# Altium schematic symbol library SCH_Modules.SchLib: 4 symbols
Pins are listed as number, name and electrical type; pins without a type are passive.

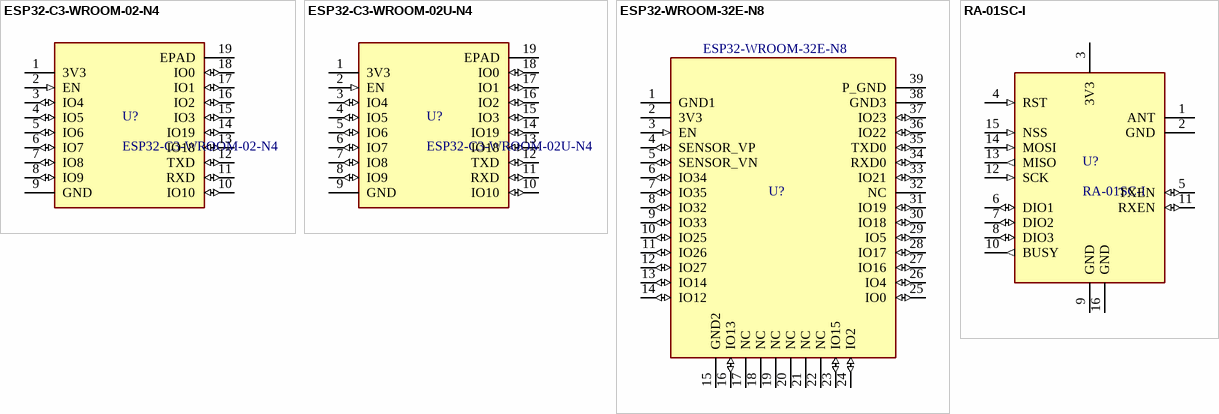
[diagram p0: symbols ESP32-C3-WROOM-02-N4 to RA-01SC-I]

## ESP32-C3-WROOM-02-N4
designator U?
WIFI + BLE MCU MODULE; Manufacturer: Espressif Systems; Supplier 1: LCSC; Manufacturer Part Number: ESP32-C3-WROOM-02-N4; RoHS: Yes; Stock 1: 1292; Pricing 1: 1=2,68230, 10=2,42140, 30=2,38010, 100=2,31800 (USD); Supplier Part Number 1: C2934560; ComponentLink1Description: Datasheet; ComponentLink1URL: https://www.espressif.com/sites/default/files/documentation/esp32-c3-wroom-02_datasheet_en.pdf; Category: RF Transceiver Modules; Case/Package: SMD-18
footprint ESP32C3WROOM02
pins: 1 3V3 (power), 2 EN (in), 3 IO4 (io), 4 IO5 (io), 5 IO6 (io), 6 IO7 (io), 7 IO8 (io), 8 IO9 (io), 9 GND (power), 10 IO10 (io), 11 RXD (io), 12 TXD (io), 13 IO18 (io), 14 IO19 (io), 15 IO3 (io), 16 IO2 (io), 17 IO1 (io), 18 IO0 (io), 19 EPAD (power)

## ESP32-C3-WROOM-02U-N4
designator U?
WIFI + BLE MCU MODULE; Manufacturer: Espressif Systems; Supplier 1: LCSC; Manufacturer Part Number: ESP32-C3-WROOM-02U-N4; RoHS: Yes; Category: RF Transceiver Modules; Stock 1: 729; Pricing 1: 1=2,67600, 10=2,41660, 30=2,37530, 100=2,31480 (USD); Supplier Part Number 1: C2926676; Case/Package: SMD-18
footprint ESP32C3WROOM02U
pins: 1 3V3 (power), 2 EN (in), 3 IO4 (io), 4 IO5 (io), 5 IO6 (io), 6 IO7 (io), 7 IO8 (io), 8 IO9 (io), 9 GND (power), 10 IO10 (io), 11 RXD (io), 12 TXD (io), 13 IO18 (io), 14 IO19 (io), 15 IO3 (io), 16 IO2 (io), 17 IO1 (io), 18 IO0 (io), 19 EPAD (power)

## ESP32-WROOM-32E-N8
designator U?, comment Manufacturer Part Number: ESP32-WROOM-32E-N8  (hidden comment: ESP32-WROOM-32E)
WIFI + BLUETOOTH MCU MODULE; Manufacturer: Espressif Systems; RoHS: No; Category: RF Transceiver Modules; Stock 1: 10823; Pricing 1: 1=3,30000 (USD); Supplier 1: LCSC; Supplier 2: Digi-Key; Supplier Part Number 1: C701342; Supplier Part Number 2: 1965-ESP32-WROOM-32E-N8CT-ND; ComponentLink1Description: Datasheet; ComponentLink1URL: https://www.espressif.com/sites/default/files/documentation/esp32-wroom-32e_esp32-wroom-32ue_datasheet_en.pdf; Case/Package: SMD-38
footprint ESP32­WROOM­32E
pins: 1 GND1 (power), 2 3V3 (power), 3 EN (in), 4 SENSOR_VP (io), 5 SENSOR_VN (io), 6 IO34 (io), 7 IO35 (io), 8 IO32 (io), 9 IO33 (io), 10 IO25 (io), 11 IO26 (io), 12 IO27 (io), 13 IO14 (io), 14 IO12 (io), 15 GND2 (power), 16 IO13 (io), 17 NC, 18 NC, 19 NC, 20 NC, 21 NC, 22 NC, 23 IO15 (io), 24 IO2 (io), 25 IO0 (io), 26 IO4 (io), 27 IO16 (io), 28 IO17 (io), 29 IO5 (io), 30 IO18 (io), 31 IO19 (io), 32 NC, 33 IO21 (io), 34 RXD0 (io), 35 TXD0 (io), 36 IO22 (io), 37 IO23 (io), 38 GND3 (power), 39 P_GND (power)

## RA-01SC-I
designator U?
RF LORA MODULE; Manufacturer: Ai-Thinker; Supplier 1: LCSC; Manufacturer Part Number: RA-01SC-I; RoHS: Yes; Category: RF Transceiver Modules; Stock 1: 626; Pricing 1: 1=3,38550, 10=2,97350, 30=2,72850, 100=2,30850, 500=2,19390, 800=2,14300 (USD); Supplier Part Number 1: C2830750; Case/Package: SMD-16; ComponentLink1Description: Datasheet; ComponentLink1URL: https://docs.ai-thinker.com/_media/lora/ra-01sc_specification.pdf
footprint RA01SC
pins: 1 ANT, 2 GND (power), 3 3V3 (power), 4 RST (in), 5 TXEN (io), 6 DIO1 (io), 7 DIO2 (io), 8 DIO3 (io), 9 GND (power), 10 BUSY (out), 11 RXEN (io), 12 SCK (in), 13 MISO (out), 14 MOSI (in), 15 NSS (in), 16 GND (power)